# EAGLE library part VCNL4040 (library VCNL4040)
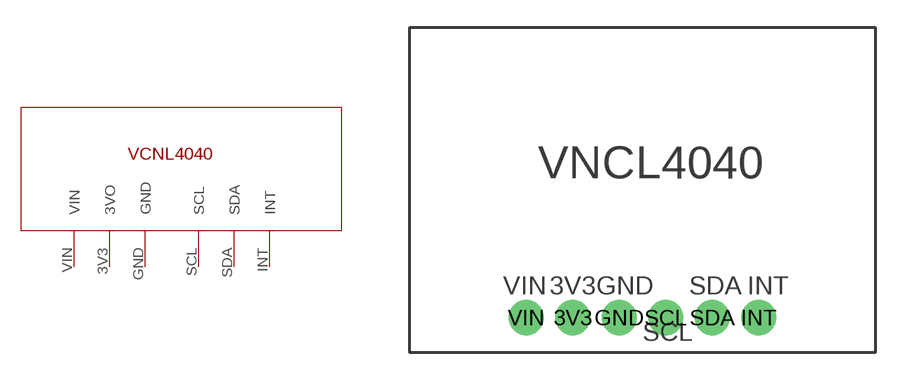
[diagram p0: symbol with the pads of VCNL4040; footprint VCNL4040]

Designator prefix -

## VCNL4040  [VCNL4040]
3V3  3VO
GND  GND
INT  INT
SCL  SCL
SDA  SDA
VIN  VIN

## Footprint VCNL4040 (pad centres in mm)
drill 1 pad 1.93: 3V3 8.89,1.905; GND 11.43,1.905; INT 19.05,1.905; SCL 13.97,1.905; SDA 16.51,1.905; VIN 6.35,1.905